# Altium schematic symbol library WE-CSTLF.SchLib: 6 symbols
Pins are listed as number, name and electrical type; pins without a type are passive.

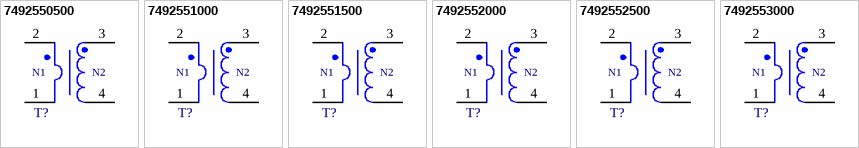
[diagram p0: symbols 7492550500 to 7492553000]

## 7492550500
designator T?  (value not drawn)
WE-CSTLF Line Frequency Current Sense Transformer, THT, EI187, 400mH; Manufacturer: Wurth Elektronik; DC Resistance 1: 0.27mOhm; DC Resistance 2: 16.2Ohm; Insulation Test Voltage: 4000V (AC); Rated Current: 45A; Voltage-µSecond: 30000Vµs; Manufacturer Part Number: 7492550500; Category: Current Sense Transformers; Match Code: WE-CSTLF; ComponentLink1Description: Website Link; ComponentLink1URL: https://www.we-online.com/redexpert/article/7492550500?ad; ComponentLink2Description: Datasheet Link; ComponentLink2URL: https://www.we-online.com/redexpert/spec/7492550500?ad; Mount: Through Hole; Operating Temperature Max: 125°C; Operating Temperature Min: -40°C; Packaging: Tray; Case/Size Code: EI187; Length: 20.3mm; Width: 16.5mm; Height: 17mm; Inductance: 400mH
footprint WE-CSTLF_EI187
pins: 1, 2, 3, 4
text: N1; N2

## 7492551000
designator T?  (value not drawn)
WE-CSTLF Line Frequency Current Sense Transformer, THT, EI187, 1600mH; Manufacturer: Wurth Elektronik; DC Resistance 1: 0.27mOhm; DC Resistance 2: 78.7Ohm; Insulation Test Voltage: 4000V (AC); Rated Current: 45A; Voltage-µSecond: 60000Vµs; Manufacturer Part Number: 7492551000; Category: Current Sense Transformers; Match Code: WE-CSTLF; ComponentLink1Description: Website Link; ComponentLink1URL: https://www.we-online.com/redexpert/article/7492551000?ad; ComponentLink2Description: Datasheet Link; ComponentLink2URL: https://www.we-online.com/redexpert/spec/7492551000?ad; Mount: Through Hole; Operating Temperature Max: 125°C; Operating Temperature Min: -40°C; Packaging: Tray; Case/Size Code: EI187; Length: 20.3mm; Width: 16.5mm; Height: 17mm; Inductance: 1600mH
footprint WE-CSTLF_EI187
pins: 1, 2, 3, 4
text: N1; N2

## 7492551500
designator T?  (value not drawn)
WE-CSTLF Line Frequency Current Sense Transformer, THT, EI187, 3600mH; Manufacturer: Wurth Elektronik; DC Resistance 1: 0.27mOhm; DC Resistance 2: 178Ohm; Insulation Test Voltage: 4000V (AC); Rated Current: 45A; Voltage-µSecond: 90000Vµs; Manufacturer Part Number: 7492551500; Category: Current Sense Transformers; Match Code: WE-CSTLF; ComponentLink1Description: Website Link; ComponentLink1URL: https://www.we-online.com/redexpert/article/7492551500?ad; ComponentLink2Description: Datasheet Link; ComponentLink2URL: https://www.we-online.com/redexpert/spec/7492551500?ad; Mount: Through Hole; Operating Temperature Max: 125°C; Operating Temperature Min: -40°C; Packaging: Tray; Case/Size Code: EI187; Length: 20.3mm; Width: 16.5mm; Height: 17mm; Inductance: 3600mH
footprint WE-CSTLF_EI187
pins: 1, 2, 3, 4
text: N1; N2

## 7492552000
designator T?  (value not drawn)
WE-CSTLF Line Frequency Current Sense Transformer, THT, EI187, 6400mH; Manufacturer: Wurth Elektronik; DC Resistance 1: 0.27mOhm; DC Resistance 2: 317Ohm; Insulation Test Voltage: 4000V (AC); Rated Current: 45A; Voltage-µSecond: 120000Vµs; Manufacturer Part Number: 7492552000; Category: Current Sense Transformers; Match Code: WE-CSTLF; ComponentLink1Description: Website Link; ComponentLink1URL: https://www.we-online.com/redexpert/article/7492552000?ad; ComponentLink2Description: Datasheet Link; ComponentLink2URL: https://www.we-online.com/redexpert/spec/7492552000?ad; Mount: Through Hole; Operating Temperature Max: 125°C; Operating Temperature Min: -40°C; Packaging: Tray; Case/Size Code: EI187; Length: 20.3mm; Width: 16.5mm; Height: 17mm; Inductance: 6400mH
footprint WE-CSTLF_EI187
pins: 1, 2, 3, 4
text: N1; N2

## 7492552500
designator T?  (value not drawn)
WE-CSTLF Line Frequency Current Sense Transformer, THT, EI187, 10000mH; Manufacturer: Wurth Elektronik; DC Resistance 1: 0.27mOhm; DC Resistance 2: 468Ohm; Insulation Test Voltage: 4000V (AC); Rated Current: 45A; Voltage-µSecond: 150000Vµs; Manufacturer Part Number: 7492552500; Category: Current Sense Transformers; Match Code: WE-CSTLF; ComponentLink1Description: Website Link; ComponentLink1URL: https://www.we-online.com/redexpert/article/7492552500?ad; ComponentLink2Description: Datasheet Link; ComponentLink2URL: https://www.we-online.com/redexpert/spec/7492552500?ad; Mount: Through Hole; Operating Temperature Max: 125°C; Operating Temperature Min: -40°C; Packaging: Tray; Case/Size Code: EI187; Length: 20.3mm; Width: 16.5mm; Height: 17mm; Inductance: 10000mH
footprint WE-CSTLF_EI187
pins: 1, 2, 3, 4
text: N1; N2

## 7492553000
designator T?  (value not drawn)
WE-CSTLF Line Frequency Current Sense Transformer, THT, EI187, 14400mH; Manufacturer: Wurth Elektronik; DC Resistance 1: 0.27mOhm; DC Resistance 2: 747Ohm; Insulation Test Voltage: 4000V (AC); Rated Current: 45A; Voltage-µSecond: 180000Vµs; Manufacturer Part Number: 7492553000; Category: Current Sense Transformers; Match Code: WE-CSTLF; ComponentLink1Description: Website Link; ComponentLink1URL: https://www.we-online.com/redexpert/article/7492553000?ad; ComponentLink2Description: Datasheet Link; ComponentLink2URL: https://www.we-online.com/redexpert/spec/7492553000?ad; Mount: Through Hole; Operating Temperature Max: 125°C; Operating Temperature Min: -40°C; Packaging: Tray; Case/Size Code: EI187; Length: 20.3mm; Width: 16.5mm; Height: 17mm; Inductance: 14400mH
footprint WE-CSTLF_EI187
pins: 1, 2, 3, 4
text: N1; N2